# EAGLE library part SPI_TFT (library forkbomb19)
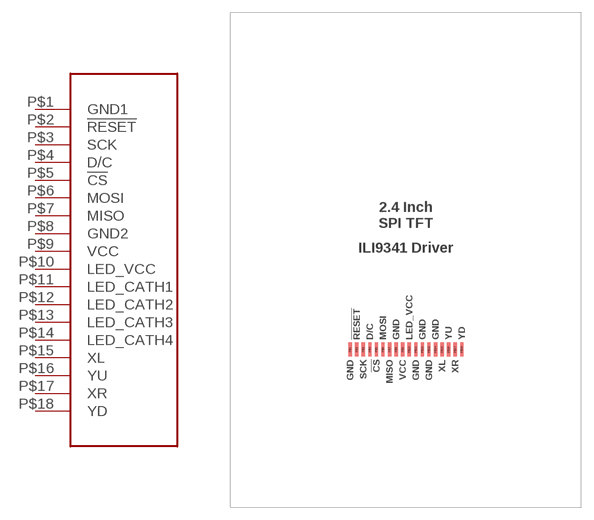
[diagram p5: symbol with the pads of SPI_TFT; footprint SPI_TFT]

Designator prefix -

## SPI_TFT  [SPI_TFT]
P$1  GND1
P$2  !RESET
P$3  SCK
P$4  D/C
P$5  !CS
P$6  MOSI
P$7  MISO
P$8  GND2
P$9  VCC
P$10  LED_VCC
P$11  LED_CATH1
P$12  LED_CATH2
P$13  LED_CATH3
P$14  LED_CATH4
P$15  XL
P$16  YU
P$17  XR
P$18  YD

## Footprint SPI_TFT (pad centres in mm)
smd 0.4 x 1.7: P$1 -6.8,0; P$2 -6,0; P$3 -5.2,0; P$4 -4.4,0; P$5 -3.6,0; P$6 -2.8,0; P$7 -2,0; P$8 -1.2,0; P$9 -0.4,0; P$10 0.4,0; P$11 1.2,0; P$12 2,0; P$13 2.8,0; P$14 3.6,0; P$15 4.4,0; P$16 5.2,0; P$17 6,0; P$18 6.8,0